# Altium footprint library intersil.PCBLIB: 2 footprints
Each footprint in its own frame and in the unit in brackets; x right, y up, seen from the top. Pads: shape width x height; smd on the part's side, far side on the other; paste and mask are expansions set on the pad; w line width, h text height; cw(c..) or ccw(c..) is an arc to the next point about the centre after c.
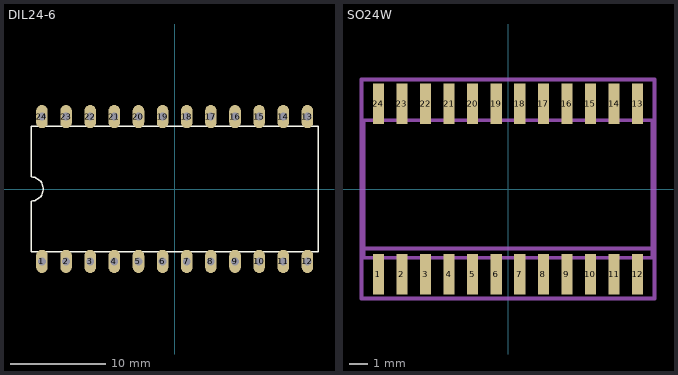
[diagram p0: the footprints below, top view; thin cyan lines are the x and y axes]

## DIL24-6 [mil]
pads (24):
  oval 48x96 hole 32: 1(-550,-300) 2(-450,-300) 3(-350,-300) 4(-250,-300) 5(-150,-300) 6(-50,-300) 7(50,-300) 8(150,-300) 9(250,-300) 10(350,-300) 11(450,-300) 12(550,-300) 13(550,300) 14(450,300) 15(350,300) 16(250,300) 17(150,300) 18(50,300) 19(-50,300) 20(-150,300) 21(-250,300) 22(-350,300) 23(-450,300) 24(-550,300)
Top Overlay:
  lines w6: -595,-260 -595,-50 ccw(c-595,0) -595,50 -595,260 595,260 595,-260 -595,-260

## SO24W [mil]
pads (24):
  rect 23.62x86.61 smd: 1(-275,-181.1) 2(-225,-181.1) 3(-175,-181.1) 4(-125,-181.1) 5(-75,-181.1) 6(-25,-181.1) 7(25,-181.1) 8(75,-181.1) 9(125,-181.1) 10(175,-181.1) 11(225,-181.1) 12(275,-181.1) 13(275,181.1) 14(225,181.1) 15(175,181.1) 16(125,181.1) 17(75,181.1) 18(25,181.1) 19(-25,181.1) 20(-75,181.1) 21(-125,181.1) 22(-175,181.1) 23(-225,181.1) 24(-275,181.1)
Mechanical 16:
  rectangle: -284.65,-209.45 -265.35,-149.61
  rectangle: -234.65,-209.45 -215.35,-149.61
  rectangle: -184.65,-209.45 -165.35,-149.61
  rectangle: -134.65,-209.45 -115.35,-149.61
  rectangle: -84.65,-209.45 -65.35,-149.61
  rectangle: -34.65,-209.45 -15.35,-149.61
  rectangle: 15.35,-209.45 34.65,-149.61
  rectangle: 65.35,-209.45 84.65,-149.61
  rectangle: 115.35,-209.45 134.65,-149.61
  rectangle: 165.35,-209.45 184.65,-149.61
  rectangle: 215.35,-209.45 234.65,-149.61
  rectangle: 265.35,-209.45 284.65,-149.61
  rectangle: 265.35,149.61 284.65,209.45
  rectangle: 215.35,149.61 234.65,209.45
  rectangle: 165.35,149.61 184.65,209.45
  rectangle: 115.35,149.61 134.65,209.45
  rectangle: 65.35,149.61 84.65,209.45
  rectangle: 15.35,149.61 34.65,209.45
  rectangle: -34.65,149.61 -15.35,209.45
  rectangle: -84.65,149.61 -65.35,209.45
  rectangle: -134.65,149.61 -115.35,209.45
  rectangle: -184.65,149.61 -165.35,209.45
  rectangle: -234.65,149.61 -215.35,209.45
  rectangle: -284.65,149.61 -265.35,209.45
  lines w8: -306.3,-125.98 -306.3,-145.67 306.3,-145.67 306.3,-125.98 ; -306.3,-125.98 -306.3,145.67 306.3,145.67 306.3,-125.98 ; -306.3,-125.98 306.3,-125.98
Mechanical 27:
  lines w7.87: -310.83,-232.28 310.83,-232.28 310.83,232.28 -310.83,232.28 -310.83,-232.28